# Altium footprint library display-hp.PCBLIB: 26 footprints (part 2 of 2)
Each footprint in its own frame and in the unit in brackets; x right, y up, seen from the top. Pads: shape width x height; smd on the part's side, far side on the other; paste and mask are expansions set on the pad; w line width, h text height; cw(c..) or ccw(c..) is an arc to the next point about the centre after c.
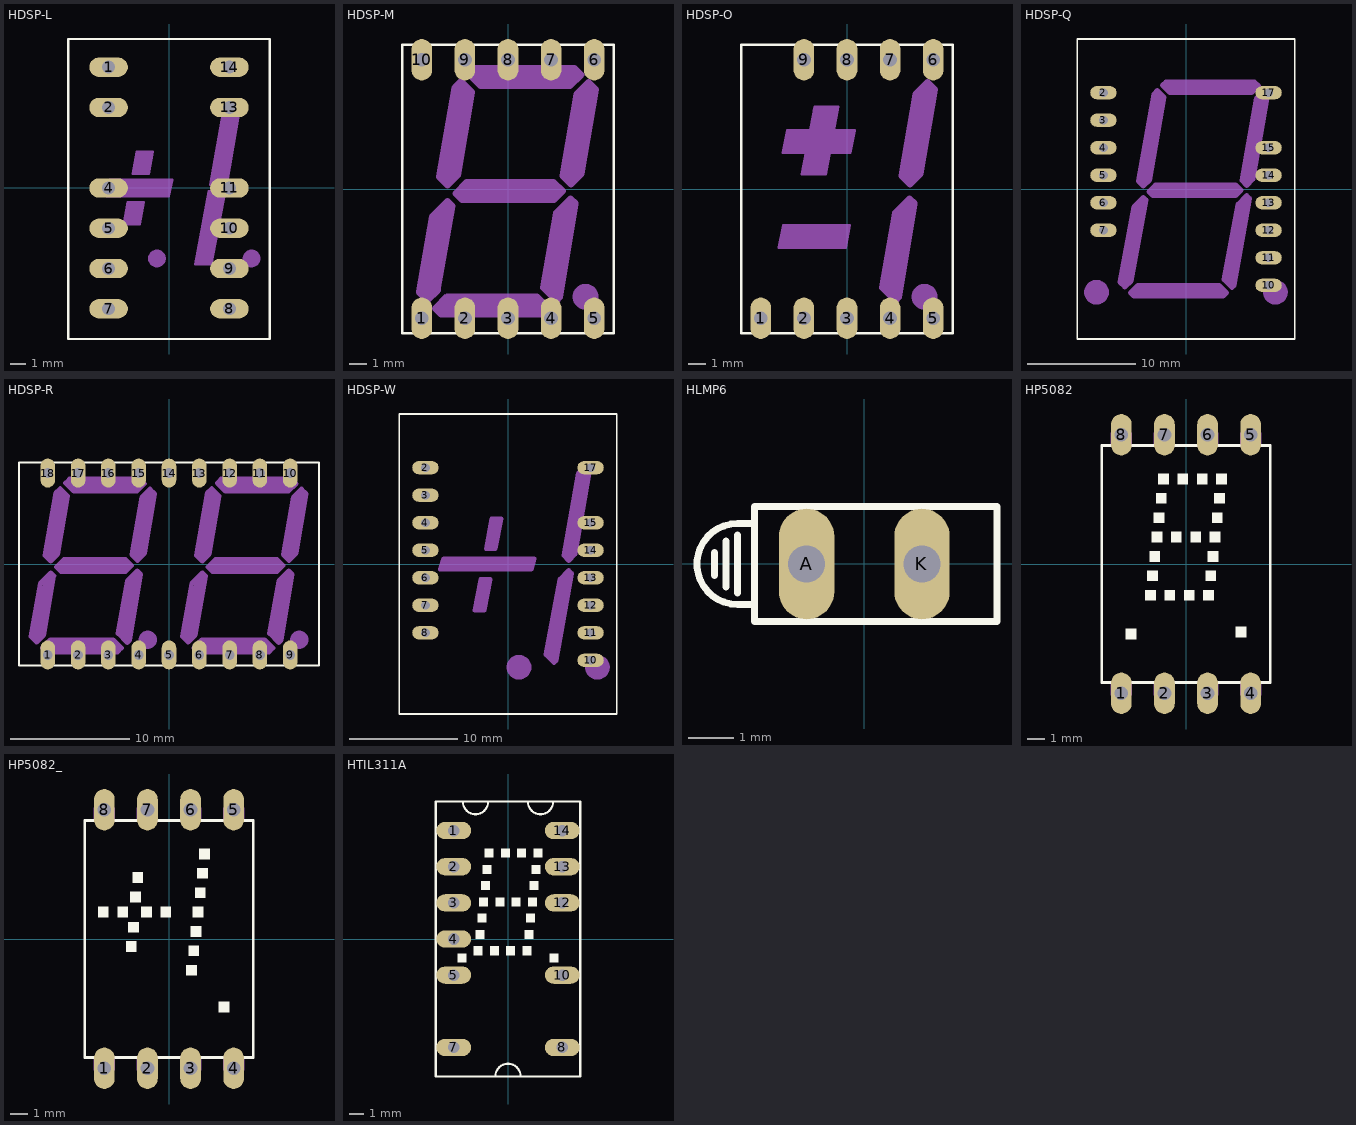
[diagram p1: the footprints below, top view; thin cyan lines are the x and y axes]

## HDSP-L [mil]
pads (12):
  oval 96x48 hole 32: 1(-150,300) 2(-150,200) 4(-150,0) 5(-150,-100) 6(-150,-200) 7(-150,-300) 8(150,-300) 9(150,-200) 10(150,-100) 11(150,0) 13(150,200) 14(150,300)
Top Overlay:
  lines w6: -250,-375 250,-375 250,370 -250,370 -250,-375
Mechanical 16:
  circle w24: c205,-175 r10
  circle w24: c-30,-175 r10
  lines w6: -155,-20 0,-20 8,20 -147,20 -155,-20 ; -112,-90 -102,-35 -62,-35 -72,-90 -112,-90 ; -90,35 -50,35 -40,90 -80,90 -90,35 ; 65,-190 105,-190 140,-8 99,-8 65,-190 ; 102,8 143,8 175,190 135,190 102,8
  lines w10: -143,15 -150,-16 -142,-16 ; -106,-77 -107,-85 -76,-85 -75,-78 ; -99,-40 -67,-40 -68,-45 ; -84,46 -85,40 -54,40 ; -77,85 -45,85 -47,78 ; -14,15 3,15 -4,-16 ; 71,-179 69,-185 102,-185 ; 103,-13 135,-13 132,-23 ; 110,25 107,13 140,13 ; 138,184 170,184 168,177
  lines w12: -30,-175 -20,-175 ; 200,-175 210,-175
  lines w40: -131,0 -17,0 ; -88,-70 -85,-55 ; -66,54 -63,70 ; 88,-171 116,-28 ; 126,27 152,169

## HDSP-M [mil]
pads (10):
  oval 48x96 hole 32: 1(-200,-300) 2(-100,-300) 3(0,-300) 4(100,-300) 5(200,-300) 6(200,300) 7(100,300) 8(0,300) 9(-100,300) 10(-200,300)
Top Overlay:
  lines w6: -245,-335 -245,335 245,335 245,-335 -245,-335
Mechanical 16:
  circle w30: c180,-250 r15
  lines w12: 176,-250 183,-250
  lines w16: -206,-239 -175,-64 -140,-29 -130,-39 -164,-235 -187,-258 -206,-239 ; -168,-277 -141,-250 66,-250 93,-277 80,-290 -155,-290 -168,-277 ; -159,28 -140,9 -117,32 -84,224 -109,249 -123,235 -159,28 ; -121,-10 -96,15 106,15 126,-5 106,-25 -106,-25 -121,-10 ; -91,267 -64,240 144,240 169,265 154,280 -78,280 -91,267 ; 82,-229 112,-56 145,-23 156,-34 120,-251 112,-259 82,-229 ; 127,31 160,220 187,247 203,231 170,36 146,12 127,31
  lines w32: -183,-234 -149,-51 ; -145,-270 70,-270 ; -139,33 -105,225 ; -99,-5 105,-5 ; -69,260 150,260 ; 104,-236 137,-46 ; 148,36 180,227

## HDSP-O [mil]
pads (9):
  oval 48x96 hole 32: 1(-200,-300) 2(-100,-300) 3(0,-300) 4(100,-300) 5(200,-300) 6(200,300) 7(100,300) 8(0,300) 9(-100,300)
Top Overlay:
  lines w6: -245,-335 -245,335 245,335 245,-335 -245,-335
Mechanical 16:
  circle w30: c180,-250 r15
  lines w6: -158,-136 -148,-84 6,-84 -3,-136 -158,-136 ; -149,84 -138,136 18,136 7,84 -149,84 ; -105,34 -49,34 -20,191 -75,191 -105,34
  lines w12: -141,-131 -150,-131 -142,-90 -138,-90 ; -131,89 -142,89 -133,129 -124,129 ; -92,68 -98,39 -53,39 -51,51 ; -74,181 -73,187 -26,187 -30,167 ; -18,-129 -7,-129 0,-91 -16,-91 ; -6,90 2,90 10,129 -4,129 ; 176,-250 183,-250
  lines w16: 82,-229 112,-56 145,-23 156,-34 120,-251 112,-259 82,-229 ; 127,31 160,220 187,247 203,231 170,36 146,12 127,31
  lines w32: 104,-236 137,-46 ; 148,36 180,227
  lines w50: -127,-110 -24,-110 ; -115,110 -15,110 ; -72,59 -52,166

## HDSP-Q [mil]
pads (13):
  oval 96x48 hole 32: 2(-300,350) 3(-300,250) 4(-300,150) 5(-300,50) 6(-300,-50) 7(-300,-150) 10(300,-350) 11(300,-250) 12(300,-150) 13(300,-50) 14(300,50) 15(300,150) 17(300,350)
Top Overlay:
  lines w6: -395,-545 -395,545 395,545 395,-545 -395,-545
Mechanical 16:
  circle w40: c325,-375 r25
  circle w40: c-325,-375 r25
  rectangle: 300,-400 350,-350
  rectangle: -350,-400 -300,-350
  lines w16: -241,-339 -190,-64 -155,-29 -145,-39 -199,-335 -222,-358 -241,-339 ; -203,-377 -176,-350 121,-350 148,-377 135,-390 -190,-390 -203,-377 ; -174,28 -155,9 -132,32 -79,334 -104,359 -118,345 -174,28 ; -136,-10 -111,15 181,15 201,-5 181,-25 -121,-25 -136,-10 ; -86,377 -59,350 239,350 264,375 249,390 -73,390 -86,377 ; 137,-329 187,-56 220,-23 231,-34 175,-351 167,-359 137,-329 ; 202,31 255,330 282,357 298,341 245,36 221,12 202,31
  lines w32: -218,-334 -164,-51 ; -180,-370 125,-370 ; -154,33 -100,335 ; -114,-5 180,-5 ; -64,370 245,370 ; 159,-336 212,-46 ; 223,36 275,337

## HDSP-R [mil]
pads (18):
  oval 48x96 hole 32: 1(-400,-300) 2(-300,-300) 3(-200,-300) 4(-100,-300) 5(0,-300) 6(100,-300) 7(200,-300) 8(300,-300) 9(400,-300) 10(400,300) 11(300,300) 12(200,300) 13(100,300) 14(0,300) 15(-100,300) 16(-200,300) 17(-300,300) 18(-400,300)
Top Overlay:
  lines w6: -495,-335 -495,335 495,335 495,-335 -495,-335
Mechanical 16:
  circle w30: c-70,-250 r15
  circle w30: c430,-250 r15
  lines w12: -74,-250 -67,-250 ; 426,-250 433,-250
  lines w16: -456,-239 -425,-64 -390,-29 -380,-39 -414,-235 -437,-258 -456,-239 ; -418,-277 -391,-250 -184,-250 -157,-277 -170,-290 -405,-290 -418,-277 ; -409,28 -390,9 -367,32 -334,224 -359,249 -373,235 -409,28 ; -371,-10 -346,15 -144,15 -124,-5 -144,-25 -356,-25 -371,-10 ; -341,267 -314,240 -106,240 -81,265 -96,280 -328,280 -341,267 ; -168,-229 -138,-56 -105,-23 -94,-34 -130,-251 -138,-259 -168,-229 ; -123,31 -90,220 -63,247 -47,231 -80,36 -104,12 -123,31 ; 44,-239 75,-64 110,-29 120,-39 86,-235 63,-258 44,-239 ; 82,-277 109,-250 316,-250 343,-277 330,-290 95,-290 82,-277 ; 91,28 110,9 133,32 166,224 141,249 127,235 91,28 ; 129,-10 154,15 356,15 376,-5 356,-25 144,-25 129,-10 ; 159,267 186,240 394,240 419,265 404,280 172,280 159,267 ; 332,-229 362,-56 395,-23 406,-34 370,-251 362,-259 332,-229 ; 377,31 410,220 437,247 453,231 420,36 396,12 377,31
  lines w32: -433,-234 -399,-51 ; -395,-270 -180,-270 ; -389,33 -355,225 ; -349,-5 -145,-5 ; -319,260 -100,260 ; -146,-236 -113,-46 ; -102,36 -70,227 ; 67,-234 101,-51 ; 105,-270 320,-270 ; 111,33 145,225 ; 151,-5 355,-5 ; 181,260 400,260 ; 354,-236 387,-46 ; 398,36 430,227

## HDSP-W [mil]
pads (14):
  oval 96x48 hole 32: 2(-300,350) 3(-300,250) 4(-300,150) 5(-300,50) 6(-300,-50) 7(-300,-150) 8(-300,-250) 10(300,-350) 11(300,-250) 12(300,-150) 13(300,-50) 14(300,50) 15(300,150) 17(300,350)
Top Overlay:
  lines w6: -395,-545 -395,545 395,545 395,-545 -395,-545
Mechanical 16:
  circle w40: c325,-375 r25
  circle w40: c40,-375 r25
  rectangle: 300,-400 350,-350
  rectangle: 15,-400 65,-350
  lines w16: -247,-20 84,-20 95,20 -234,20 -247,-20 ; -121,-169 -100,-56 -65,-56 -86,-169 -121,-169 ; -80,55 -46,55 -24,165 -60,165 -80,55 ; 137,-329 187,-56 220,-23 231,-34 175,-351 167,-359 137,-329 ; 202,31 255,330 282,357 298,341 245,36 221,12 202,31
  lines w32: -229,0 77,0 ; -99,-155 -84,-72 ; -63,70 -47,149 ; 159,-336 212,-46 ; 223,36 275,337

## HLMP6 [mil]
pads (2):
  oval 48x96 hole 32: A(-50,0) K(50,0)
Top Overlay:
  lines w6: -130,-10 -130,10 ; -120,-20 -120,20 ; -110,-25 -110,25 ; -95,-35 -95,-50 115,-50 115,50 -95,50 -95,35 ; -95,-35 -110,-35 cw(c-110,0) -110,35 -95,35 ; -95,-35 -95,35

## HP5082 [mil]
pads (8):
  oval 48x96 hole 32: 1(-150,-300) 2(-50,-300) 3(50,-300) 4(150,-300) 5(150,300) 6(50,300) 7(-50,300) 8(-150,300)
Top Overlay:
  rectangle: -65,185 -40,210
  rectangle: -20,185 5,210
  rectangle: 25,185 50,210
  rectangle: 70,185 95,210
  rectangle: -70,140 -45,165
  rectangle: -75,95 -50,120
  rectangle: -80,50 -55,75
  rectangle: -85,5 -60,30
  rectangle: -90,-40 -65,-15
  rectangle: -35,50 -10,75
  rectangle: -95,-85 -70,-60
  rectangle: 10,50 35,75
  rectangle: 55,50 80,75
  rectangle: 65,140 90,165
  rectangle: 60,95 85,120
  rectangle: 50,5 75,30
  rectangle: 45,-40 70,-15
  rectangle: 40,-85 65,-60
  rectangle: -50,-85 -25,-60
  rectangle: -5,-85 20,-60
  rectangle: 115,-170 140,-145
  rectangle: -140,-175 -115,-150
  lines w6: -175,-275 -195,-275 -195,275 -175,275 ; -125,-275 -75,-275 ; -125,275 -75,275 ; -25,-275 25,-275 ; -25,275 25,275 ; 75,-275 125,-275 ; 75,275 125,275 ; 175,-275 195,-275 195,275 175,275
Mechanical 16:
  rectangle: -175,-305 -125,-275
  rectangle: -75,-305 -25,-275
  rectangle: 25,-305 75,-275
  rectangle: 125,-305 175,-275
  rectangle: 125,275 175,305
  rectangle: 25,275 75,305
  rectangle: -75,275 -25,305
  rectangle: -175,275 -125,305
  lines w6: -175,-275 -125,-275 ; -175,275 -125,275 ; -75,-275 -25,-275 ; -75,275 -25,275 ; 25,-275 75,-275 ; 25,275 75,275 ; 125,-275 175,-275 ; 125,275 175,275

## HP5082_ [mil]
pads (8):
  oval 48x96 hole 32: 1(-150,-300) 2(-50,-300) 3(50,-300) 4(150,-300) 5(150,300) 6(50,300) 7(-50,300) 8(-150,300)
Top Overlay:
  rectangle: -85,130 -60,155
  rectangle: 70,185 95,210
  rectangle: -90,85 -65,110
  rectangle: -165,50 -140,75
  rectangle: -120,50 -95,75
  rectangle: -95,15 -70,40
  rectangle: -100,-30 -75,-5
  rectangle: -65,50 -40,75
  rectangle: -20,50 5,75
  rectangle: 55,50 80,75
  rectangle: 65,140 90,165
  rectangle: 60,95 85,120
  rectangle: 50,5 75,30
  rectangle: 45,-40 70,-15
  rectangle: 40,-85 65,-60
  rectangle: 115,-170 140,-145
  lines w6: -175,-275 -195,-275 -195,275 -175,275 ; -125,-275 -75,-275 ; -125,275 -75,275 ; -25,-275 25,-275 ; -25,275 25,275 ; 75,-275 125,-275 ; 75,275 125,275 ; 175,-275 195,-275 195,275 175,275
Mechanical 16:
  rectangle: -175,-305 -125,-275
  rectangle: -75,-305 -25,-275
  rectangle: 25,-305 75,-275
  rectangle: 125,-305 175,-275
  rectangle: 125,275 175,305
  rectangle: 25,275 75,305
  rectangle: -75,275 -25,305
  rectangle: -175,275 -125,305
  lines w6: -175,-275 -125,-275 ; -175,275 -125,275 ; -75,-275 -25,-275 ; -75,275 -25,275 ; 25,-275 75,-275 ; 25,275 75,275 ; 125,-275 175,-275 ; 125,275 175,275

## HTIL311A [mil]
pads (11):
  oval 96x48 hole 32: 1(-150,300) 2(-150,200) 3(-150,100) 4(-150,0) 5(-150,-100) 7(-150,-300) 8(150,-300) 10(150,-100) 12(150,100) 13(150,200) 14(150,300)
Top Overlay:
  rectangle: -65,225 -40,250
  rectangle: -20,225 5,250
  rectangle: 25,225 50,250
  rectangle: 70,225 95,250
  rectangle: -70,180 -45,205
  rectangle: -75,135 -50,160
  rectangle: -80,90 -55,115
  rectangle: -85,45 -60,70
  rectangle: -90,0 -65,25
  rectangle: -35,90 -10,115
  rectangle: -95,-45 -70,-20
  rectangle: 10,90 35,115
  rectangle: 55,90 80,115
  rectangle: 65,180 90,205
  rectangle: 60,135 85,160
  rectangle: 50,45 75,70
  rectangle: 45,0 70,25
  rectangle: 40,-45 65,-20
  rectangle: -50,-45 -25,-20
  rectangle: -5,-45 20,-20
  rectangle: 115,-65 140,-40
  rectangle: -140,-65 -115,-40
  lines w6: -125,380 ccw(c-90,380) -55,380 ; -35,-380 cw(c0,-380) 35,-380 ; 55,380 ccw(c90,380) 125,380 ; -200,-380 200,-380 200,380 -200,380 -200,-380